# EAGLE library part ADC_ADS8688IDBTR (library GTOR - Active Components)
Octal Channel Single ADC SAR 500ksps 16-bit Serial 38-Pin TSSOP T/R Source: Datasheet <https://www.arrow.com/en/products/ads8688idbtr/texas-instruments>
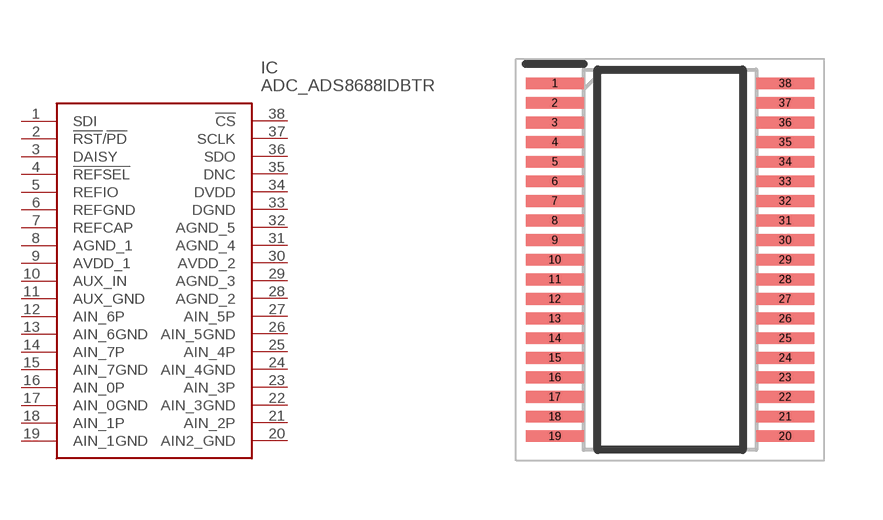
[diagram p16: symbol with the pads of SOP50P640X120-38N; footprint SOP50P640X120-38N]

Designator prefix IC

## ADC_ADS8688IDBTR (ARROW_PART_NUMBER: ADS8688IDBTR; ARROW_PRICE-STOCK: https://www.arrow.com/en/products/ads8688idbtr/texas-instruments?region=nac; DESCRIPTION: Octal Channel Single ADC SAR 500ksps 16-bit Serial 38-Pin TSSOP T/R; HEIGHT: 1.2mm; MANUFACTURER_NAME: Texas Instruments; MANUFACTURER_PART_NUMBER: ADS8688IDBTR; MOUSER_PART_NUMBER: 595-ADS8688IDBTR; MOUSER_PRICE-STOCK: https://www.mouser.co.uk/ProductDetail/Texas-Instruments/ADS8688IDBTR?qs=bZA2O%252B%252B1GJuPFEagMJIgMw%3D%3D)  [SOP50P640X120-38N]
1  SDI
2  !RST!/!PD
3  DAISY
4  !REFSEL
5  REFIO
6  REFGND
7  REFCAP
8  AGND_1
9  AVDD_1
10  AUX_IN
11  AUX_GND
12  AIN_6P
13  AIN_6GND
14  AIN_7P
15  AIN_7GND
16  AIN_0P
17  AIN_0GND
18  AIN_1P
19  AIN_1GND
20  AIN2_GND
21  AIN_2P
22  AIN_3GND
23  AIN_3P
24  AIN_4GND
25  AIN_4P
26  AIN_5GND
27  AIN_5P
28  AGND_2
29  AGND_3
30  AVDD_2
31  AGND_4
32  AGND_5
33  DGND
34  DVDD
35  DNC
36  SDO
37  SCLK
38  !CS

## Footprint SOP50P640X120-38N (pad centres in mm)
DBT0038A
smd 1.475 x 0.3: 1 -2.938,4.5; 2 -2.938,4; 3 -2.938,3.5; 4 -2.938,3; 5 -2.938,2.5; 6 -2.938,2; 7 -2.938,1.5; 8 -2.938,1; 9 -2.938,0.5; 10 -2.938,0; 11 -2.938,-0.5; 12 -2.938,-1; 13 -2.938,-1.5; 14 -2.938,-2; 15 -2.938,-2.5; 16 -2.938,-3; 17 -2.938,-3.5; 18 -2.938,-4; 19 -2.938,-4.5; 20 2.938,-4.5; 21 2.938,-4; 22 2.938,-3.5; 23 2.938,-3; 24 2.938,-2.5; 25 2.938,-2; 26 2.938,-1.5; 27 2.938,-1; 28 2.938,-0.5; 29 2.938,0; 30 2.938,0.5; 31 2.938,1; 32 2.938,1.5; 33 2.938,2; 34 2.938,2.5; 35 2.938,3; 36 2.938,3.5; 37 2.938,4; 38 2.938,4.5